# Altium footprint library TH Optoelectronics.PcbLib: 22 footprints (part 4 of 4)
Each footprint in its own frame and in the unit in brackets; x right, y up, seen from the top. Pads: shape width x height; smd on the part's side, far side on the other; paste and mask are expansions set on the pad; w line width, h text height; cw(c..) or ccw(c..) is an arc to the next point about the centre after c.
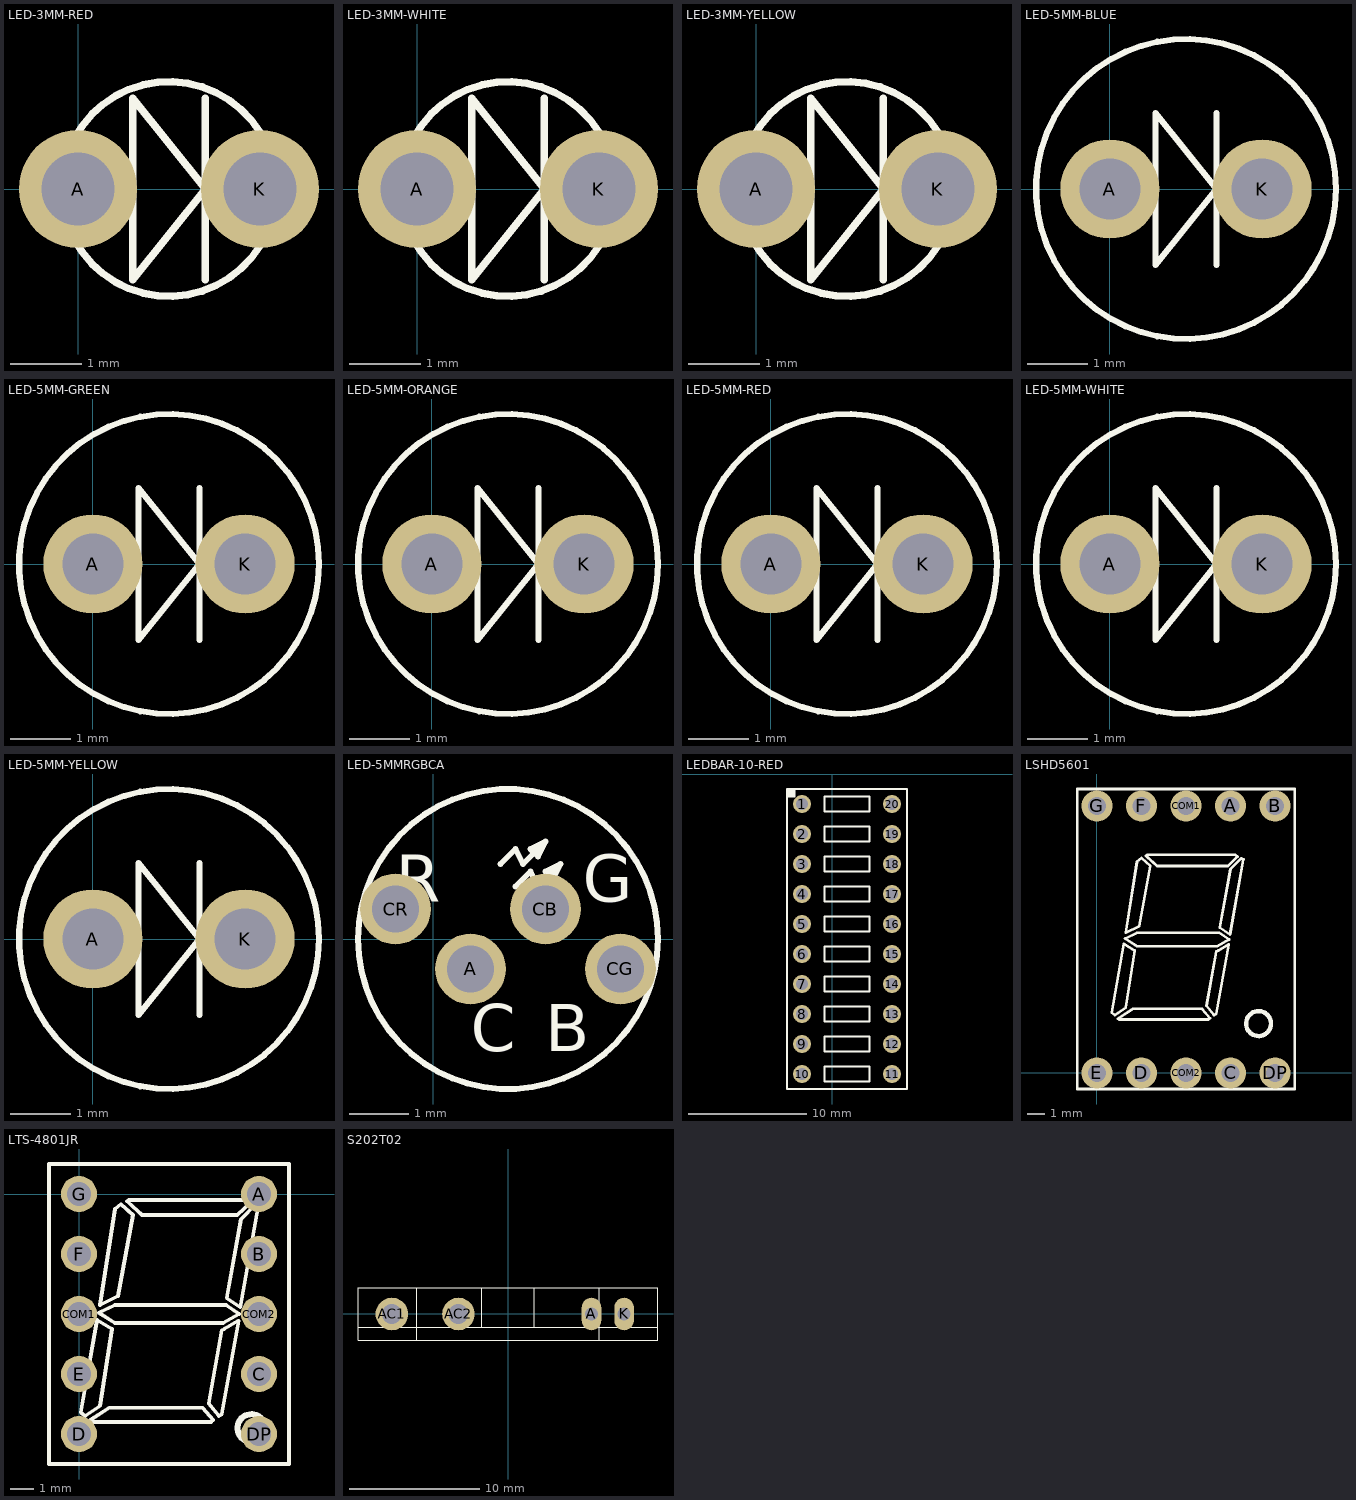
[diagram p3: the footprints below, top view; thin cyan lines are the x and y axes]

## LED-3MM-RED [mil]
pads (2):
  round 65 hole 40: A(0,0) K(100,0)
Top Overlay:
  circle w4: c50,0 r59.06
  lines w4: 70,-50 70,0 ; 70,50 70,0 ; 70,0 30,-50 30,50 70,0
3D body: height 110, standoff 70, extent -15,-62.87 114.49,66.87
3D body: height 250, standoff 130, extent -9,-59 110.37,60.49
3D body: height 190, standoff 70, extent -9,-59 110.53,60.76
3D body: height 110, standoff 100, extent 45,-5 55,5
3D body: height 100, standoff 90, extent 21,-7 30,7
3D body: height 60, standoff -120, extent -12.5,-13 12.5,12
3D body: height 100, standoff 90, extent 35,-33 90,33
3D body: height 90, standoff 50, extent 69,-12.5 112,12.5
3D body: height 90, standoff 50, extent -13,-13 30,12
3D body: height 50, standoff -120, extent 87,-12.5 112,12.5

## LED-3MM-WHITE [mil]
pads (2):
  round 65 hole 40: A(0,0) K(100,0)
Top Overlay:
  circle w4: c50,0 r59.06
  lines w4: 70,-50 70,0 ; 70,50 70,0 ; 70,0 30,-50 30,50 70,0
3D body: height 110, standoff 70, extent -15,-62.87 114.49,66.87
3D body: height 250, standoff 130, extent -9,-59 110.37,60.49
3D body: height 190, standoff 70, extent -9,-59 110.53,60.76
3D body: height 110, standoff 100, extent 45,-5 55,5
3D body: height 100, standoff 90, extent 21,-7 30,7
3D body: height 60, standoff -120, extent -12.5,-13 12.5,12
3D body: height 100, standoff 90, extent 35,-33 90,33
3D body: height 90, standoff 50, extent 69,-12.5 112,12.5
3D body: height 90, standoff 50, extent -13,-13 30,12
3D body: height 50, standoff -120, extent 87,-12.5 112,12.5

## LED-3MM-YELLOW [mil]
pads (2):
  round 65 hole 40: A(0,0) K(100,0)
Top Overlay:
  circle w4: c50,0 r59.06
  lines w4: 70,-50 70,0 ; 70,50 70,0 ; 70,0 30,-50 30,50 70,0
3D body: height 110, standoff 70, extent -15,-62.87 114.49,66.87
3D body: height 250, standoff 130, extent -9,-59 110.37,60.49
3D body: height 190, standoff 70, extent -9,-59 110.53,60.76
3D body: height 110, standoff 100, extent 45,-5 55,5
3D body: height 100, standoff 90, extent 21,-7 30,7
3D body: height 60, standoff -120, extent -12.5,-13 12.5,12
3D body: height 100, standoff 90, extent 35,-33 90,33
3D body: height 90, standoff 50, extent 69,-12.5 112,12.5
3D body: height 90, standoff 50, extent -13,-13 30,12
3D body: height 50, standoff -120, extent 87,-12.5 112,12.5

## LED-5MM-BLUE [mil]
pads (2):
  round 65 hole 40: A(0,0) K(100,0)
Top Overlay:
  circle w4: c50,0 r98.43
  lines w4: 70,-50 70,0 ; 70,50 70,0 ; 70,0 30,-50 30,50 70,0
3D body: height 110, standoff 70, extent -54.17,-105 155,104.59
3D body: height 370, standoff 170, extent -49,-100 149.96,99.15
3D body: height 270, standoff 70, extent -49,-100 150.21,99.61
3D body: height 170, standoff 160, extent 45,-5 55,5
3D body: height 160, standoff 150, extent 21,-7 30,7
3D body: height 60, standoff -120, extent -12.5,-13 12.5,12
3D body: height 160, standoff 150, extent 35,-33 90,33
3D body: height 150, standoff 50, extent 69,-12.5 112,12.5
3D body: height 150, standoff 50, extent -13,-13 30,12
3D body: height 50, standoff -120, extent 87,-12.5 112,12.5

## LED-5MM-GREEN [mil]
pads (2):
  round 65 hole 40: A(0,0) K(100,0)
Top Overlay:
  circle w4: c50,0 r98.43
  lines w4: 70,-50 70,0 ; 70,50 70,0 ; 70,0 30,-50 30,50 70,0
3D body: height 110, standoff 70, extent -54.17,-105 155,104.59
3D body: height 370, standoff 170, extent -49,-100 149.96,99.15
3D body: height 270, standoff 70, extent -49,-100 150.21,99.61
3D body: height 170, standoff 160, extent 45,-5 55,5
3D body: height 160, standoff 150, extent 21,-7 30,7
3D body: height 60, standoff -120, extent -12.5,-13 12.5,12
3D body: height 160, standoff 150, extent 35,-33 90,33
3D body: height 150, standoff 50, extent 69,-12.5 112,12.5
3D body: height 150, standoff 50, extent -13,-13 30,12
3D body: height 50, standoff -120, extent 87,-12.5 112,12.5

## LED-5MM-ORANGE [mil]
pads (2):
  round 65 hole 40: A(0,0) K(100,0)
Top Overlay:
  circle w4: c50,0 r98.43
  lines w4: 70,-50 70,0 ; 70,50 70,0 ; 70,0 30,-50 30,50 70,0
3D body: height 110, standoff 70, extent -54.17,-105 155,104.59
3D body: height 370, standoff 170, extent -49,-100 149.96,99.15
3D body: height 270, standoff 70, extent -49,-100 150.21,99.61
3D body: height 170, standoff 160, extent 45,-5 55,5
3D body: height 160, standoff 150, extent 21,-7 30,7
3D body: height 60, standoff -120, extent -12.5,-13 12.5,12
3D body: height 160, standoff 150, extent 35,-33 90,33
3D body: height 150, standoff 50, extent 69,-12.5 112,12.5
3D body: height 150, standoff 50, extent -13,-13 30,12
3D body: height 50, standoff -120, extent 87,-12.5 112,12.5

## LED-5MM-RED [mil]
pads (2):
  round 65 hole 40: A(0,0) K(100,0)
Top Overlay:
  circle w4: c50,0 r98.43
  lines w4: 70,-50 70,0 ; 70,50 70,0 ; 70,0 30,-50 30,50 70,0
3D body: height 110, standoff 70, extent -54.17,-105 155,104.59
3D body: height 370, standoff 170, extent -49,-100 149.96,99.15
3D body: height 270, standoff 70, extent -49,-100 150.21,99.61
3D body: height 170, standoff 160, extent 45,-5 55,5
3D body: height 160, standoff 150, extent 21,-7 30,7
3D body: height 60, standoff -120, extent -12.5,-13 12.5,12
3D body: height 160, standoff 150, extent 35,-33 90,33
3D body: height 150, standoff 50, extent 69,-12.5 112,12.5
3D body: height 150, standoff 50, extent -13,-13 30,12
3D body: height 50, standoff -120, extent 87,-12.5 112,12.5

## LED-5MM-WHITE [mil]
pads (2):
  round 65 hole 40: A(0,0) K(100,0)
Top Overlay:
  circle w4: c50,0 r98.43
  lines w4: 70,-50 70,0 ; 70,50 70,0 ; 70,0 30,50 30,-50 70,0
3D body: height 50, standoff -120, extent 87,-12.5 112,12.5
3D body: height 150, standoff 50, extent -13,-13 30,12
3D body: height 150, standoff 50, extent 69,-12.5 112,12.5
3D body: height 160, standoff 150, extent 35,-33 90,33
3D body: height 60, standoff -120, extent -12.5,-13 12.5,12
3D body: height 160, standoff 150, extent 21,-7 30,7
3D body: height 170, standoff 160, extent 45,-5 55,5
3D body: height 270, standoff 70, extent -49,-100 150.21,99.61
3D body: height 370, standoff 170, extent -49,-100 149.96,99.15
3D body: height 110, standoff 70, extent -54.17,-105 155,104.59

## LED-5MM-YELLOW [mil]
pads (2):
  round 65 hole 40: A(0,0) K(100,0)
Top Overlay:
  circle w4: c50,0 r98.43
  lines w4: 70,-50 70,0 ; 70,50 70,0 ; 70,0 30,50 30,-50 70,0
3D body: height 50, standoff -120, extent 87,-12.5 112,12.5
3D body: height 150, standoff 50, extent -13,-13 30,12
3D body: height 150, standoff 50, extent 69,-12.5 112,12.5
3D body: height 160, standoff 150, extent 35,-33 90,33
3D body: height 60, standoff -120, extent -12.5,-13 12.5,12
3D body: height 160, standoff 150, extent 21,-7 30,7
3D body: height 170, standoff 160, extent 45,-5 55,5
3D body: height 270, standoff 70, extent -49,-100 150.21,99.61
3D body: height 370, standoff 170, extent -49,-100 149.96,99.15
3D body: height 110, standoff 70, extent -54.17,-105 155,104.59

## LED-5MMRGBCA [mm]
pads (4):
  round 1.2 hole 0.8: A(0.635,-0.508) CB(1.905,0.508) CG(3.175,-0.508) CR(-0.635,0.508)
Top Overlay:
  circle w0.102: c1.27,0 r2.54
  lines w0.102: 1.143,1.27 1.397,1.524 1.524,1.27 1.905,1.651 ; 1.397,0.889 1.651,1.143 1.778,0.889 2.159,1.27 ; 1.718,1.464 1.651,1.524 ; 1.972,1.083 1.905,1.143 ; 1.651,1.524 1.778,1.397 1.905,1.651 ; 1.651,1.524 1.905,1.651 ; 1.905,1.143 2.032,1.016 2.159,1.27 ; 1.905,1.143 2.159,1.27
  text "R" at -0.635,0.635 h0.8
  text "B" at 1.905,-1.905 h0.8
  text "G" at 2.54,0.635 h0.8
  text "C" at 0.635,-1.905 h0.8
3D body: height 2.79, standoff 1.78, extent -1.401,-2.667 3.912,2.656
3D body: height 9.4, standoff 4.32, extent -1.27,-2.54 3.783,2.518
3D body: height 6.86, standoff 1.78, extent -1.27,-2.54 3.79,2.53
3D body: height 4.06, standoff 3.81, extent 1.27,0.406 1.524,0.66
3D body: height 4.06, standoff 3.81, extent -0.025,0.356 0.203,0.711
3D body: height 1.52, standoff -3.05, extent -0.876,0.203 -0.241,0.838
3D body: height 4.06, standoff 3.81, extent 0.356,-0.965 0.914,0.864
3D body: height 3.81, standoff 1.27, extent 1.067,0.216 2.159,0.851
3D body: height 3.81, standoff 1.27, extent -0.889,0.203 0.203,0.838
3D body: height 1.27, standoff -3.05, extent 1.524,0.216 2.159,0.851
3D body: height 3.81, standoff 1.27, extent 0.33,-0.864 0.965,0.229
3D body: height 1.52, standoff -3.05, extent 0.33,-0.851 0.965,-0.216
3D body: height 4.06, standoff 3.81, extent 0.457,0 0.813,0.229
3D body: height 3.81, standoff 1.27, extent 2.464,-0.838 3.556,-0.203
3D body: height 1.52, standoff -3.05, extent 2.908,-0.838 3.543,-0.203
3D body: height 4.06, standoff 3.81, extent 2.464,-0.711 2.692,-0.356
3D body: height 4.06, standoff 3.81, extent 0.381,-0.813 2.21,-0.254

## LEDBAR-10-RED [mil]
pads (20):
  round 60 hole 40 unplated mask+2: 1(-100,-100) 2(-100,-200) 3(-100,-300) 4(-100,-400) 5(-100,-500) 6(-100,-600) 7(-100,-700) 8(-100,-800) 9(-100,-900) 10(-100,-1000) 11(200,-1000) 12(200,-900) 13(200,-800) 14(200,-700) 15(200,-600) 16(200,-500) 17(200,-400) 18(200,-300) 19(200,-200) 20(200,-100)
Top Overlay:
  rectangle: -150,-75 -125,-50
  lines w6: -150,-75 -125,-75 -125,-50 ; -150,-1050 250,-1050 250,-50 -150,-50 -150,-1050 ; -25,-1025 125,-1025 125,-975 -25,-975 -25,-1025 ; -25,-925 -25,-875 125,-875 125,-925 -25,-925 ; -25,-825 125,-825 125,-775 -25,-775 -25,-825 ; -25,-725 -25,-675 125,-675 125,-725 -25,-725 ; -25,-625 -25,-575 125,-575 125,-625 -25,-625 ; -25,-525 125,-525 125,-475 -25,-475 -25,-525 ; -25,-425 -25,-375 125,-375 125,-425 -25,-425 ; -25,-325 125,-325 125,-275 -25,-275 -25,-325 ; -25,-225 -25,-175 125,-175 125,-225 -25,-225 ; -25,-125 125,-125 125,-75 -25,-75 -25,-125
3D body: height 325, standoff -147.44, extent -150,-1050 250,-50

## LSHD5601 [mil]
pads (10):
  round 70 hole 40: A(300,600) B(400,600) C(300,0) COM1(200,600) COM2(200,0) D(100,0) DP(400,0) E(0,0) F(100,600) G(0,600)
Top Overlay:
  circle w10: c363,111 r28.02
  lines w6: 55,120 76,120 ; 79,120 52,120 50,120 ; 121,490 297,490 310,490 316,486 294,465 273,465 ; 123,490 113,490 110,488 111,487 135,465 275,465 ; 40,130 65,147 ; 40,130 33,136 60,290 85,275 65,147 ; 40,130 65,147 ; 50,120 47,122 81,144 236,144 254,123 250,120 100,120 50,120 ; -44,-36 -44,638 444,638 444,-36 -44,-36 ; 63,302 90,285 270,285 297,300 275,315 90,315 63,302 ; 65,315 90,475 100,483 120,465 95,330 65,315 ; 246,151 263,130 268,133 296,289 272,275 268,273 246,151 ; 276,327 299,311 329,480 324,482 300,458 276,327
3D body: height 220, standoff 120, extent 111,465 316,490
3D body: height 220, standoff 120, extent 276,312 329,482
3D body: height 220, standoff 120, extent 246,130 296,289
3D body: height 220, standoff 120, extent 47,120 254,144
3D body: height 220, standoff 120, extent 33,130 85,290
3D body: height 220, standoff 120, extent 66,316 120,483
3D body: height 220, standoff 120, extent 63,285 296,315
3D body: height 219, standoff 210, extent -44,-36 444,637
3D body: height 210, standoff 5, extent -44,-36 444,637
3D body: height 220, standoff 120, extent 342.65,95.69 379.35,130.35

## LTS-4801JR [mil]
pads (10):
  round 60 hole 40: A(300,0) B(300,-100) C(300,-300) COM1(0,-200) COM2(300,-200) D(0,-400) DP(300,-400) E(0,-300) F(0,-100) G(0,0)
Top Overlay:
  circle w10: c287,-390 r23
  lines w6: 25,-380 46,-380 ; 49,-380 22,-380 20,-380 ; 91,-10 267,-10 280,-10 286,-14 264,-35 243,-35 ; 93,-10 83,-10 80,-12 81,-13 105,-35 245,-35 ; 10,-370 35,-353 ; 10,-370 3,-364 30,-210 55,-225 35,-353 ; 10,-370 35,-353 ; 20,-380 17,-378 51,-356 206,-356 224,-377 220,-380 70,-380 20,-380 ; -50,-450 -50,50 350,50 350,-450 -50,-450 ; 33,-198 60,-215 240,-215 267,-200 245,-185 60,-185 33,-198 ; 35,-185 60,-25 70,-17 90,-35 65,-170 35,-185 ; 216,-349 233,-370 238,-367 266,-211 242,-225 238,-227 216,-349 ; 246,-173 269,-189 299,-20 294,-18 270,-42 246,-173

## S202T02 [mm]
pads (4):
  oval 1.5x2.5 hole 1 unplated mask+0.051: A(6.4,0) K(8.9,0)
  round 2.5 hole 1.5 unplated mask+0.051: AC1(-8.9,0) AC2(-3.8,0)
Top Overlay:
  lines w0.025: -11.5,-1 11.5,-1 ; -7,-2 -7,2 ; -2,-1 -2,2 ; 2,-1 2,2 ; 7,-2 7,2 ; -11.5,-2 11.5,-2 11.5,2 -11.5,2 -11.5,-2
3D body: height 20, standoff 4, extent -11.5,-1 -2,2
3D body: height 20, standoff 18, extent -2,-1 2,2
3D body: height 20, standoff 4, extent 2,-1 11.5,2
3D body: height 14, standoff 4, extent -11.5,-2 -3,-1
3D body: height 12, standoff 4, extent -3,-2 3,-1
3D body: height 14, standoff 4, extent 3,-2 11.5,-1